# EAGLE library part DMC4047LSD-13 (library NIPCB)
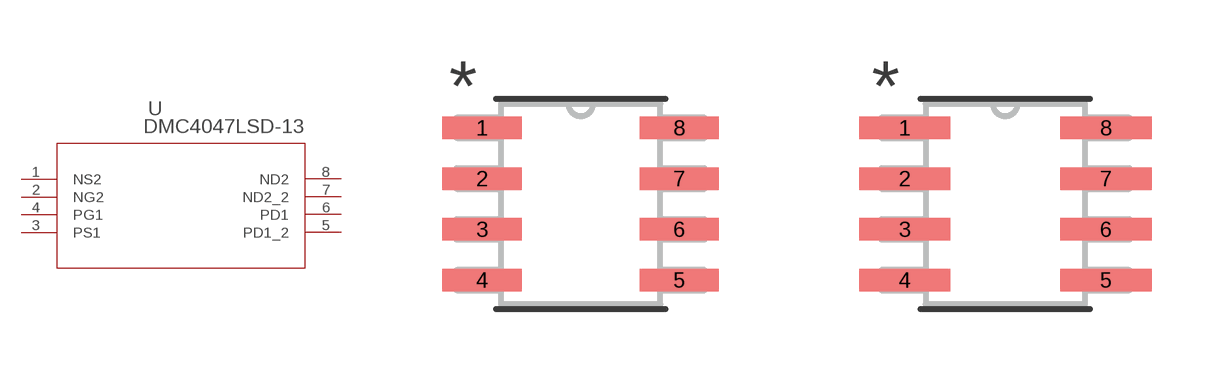
[diagram p6: symbol with the pads of SO8_DIO; footprints SO8_DIO, SO8_DIO-M]

Designator prefix U

## DMC4047LSD-13SO8_DIO (COPYRIGHT: Copyright (C) 2024 Ultra Librarian. All rights reserved.; MANUFACTURER_PART_NUMBER: DMC4047LSD-13; MFR_NAME: Diodes Inc)  [SO8_DIO]
1  NS2  pas
2  NG2  pas
3  PS1  pas
4  PG1  pas
5  PD1_2  pas
6  PD1  pas
7  ND2_2  pas
8  ND2  pas

## DMC4047LSD-13SO8_DIO-M (COPYRIGHT: Copyright (C) 2024 Ultra Librarian. All rights reserved.; MANUFACTURER_PART_NUMBER: DMC4047LSD-13; MFR_NAME: Diodes Inc)  [SO8_DIO-M]
Pads as for SO8_DIO

## DMC4047LSD-13SO8_DIO-L (COPYRIGHT: Copyright (C) 2024 Ultra Librarian. All rights reserved.; MANUFACTURER_PART_NUMBER: DMC4047LSD-13; MFR_NAME: Diodes Inc)  [SO8_DIO-L]
Pads as for SO8_DIO

## Footprint SO8_DIO (pad centres in mm)
smd 1.981 x 0.559: 1 -2.464,1.905; 2 -2.464,0.635; 3 -2.464,-0.635; 4 -2.464,-1.905; 5 2.464,-1.905; 6 2.464,-0.635; 7 2.464,0.635; 8 2.464,1.905

## Footprint SO8_DIO-M (pad centres in mm)
smd 2.286 x 0.559: 1 -2.515,1.905; 2 -2.515,0.635; 3 -2.515,-0.635; 4 -2.515,-1.905; 5 2.515,-1.905; 6 2.515,-0.635; 7 2.515,0.635; 8 2.515,1.905

## Footprint SO8_DIO-L (pad centres in mm)
smd 1.676 x 0.508: 1 -2.413,1.905; 2 -2.413,0.635; 3 -2.413,-0.635; 4 -2.413,-1.905; 5 2.413,-1.905; 6 2.413,-0.635; 7 2.413,0.635; 8 2.413,1.905